# Altium footprint library 10.8x10mm_SMD_Inductor.PcbLib: 1 footprints
Each footprint in its own frame and in the unit in brackets; x right, y up, seen from the top. Pads: shape width x height; smd on the part's side, far side on the other; paste and mask are expansions set on the pad; w line width, h text height; cw(c..) or ccw(c..) is an arc to the next point about the centre after c.
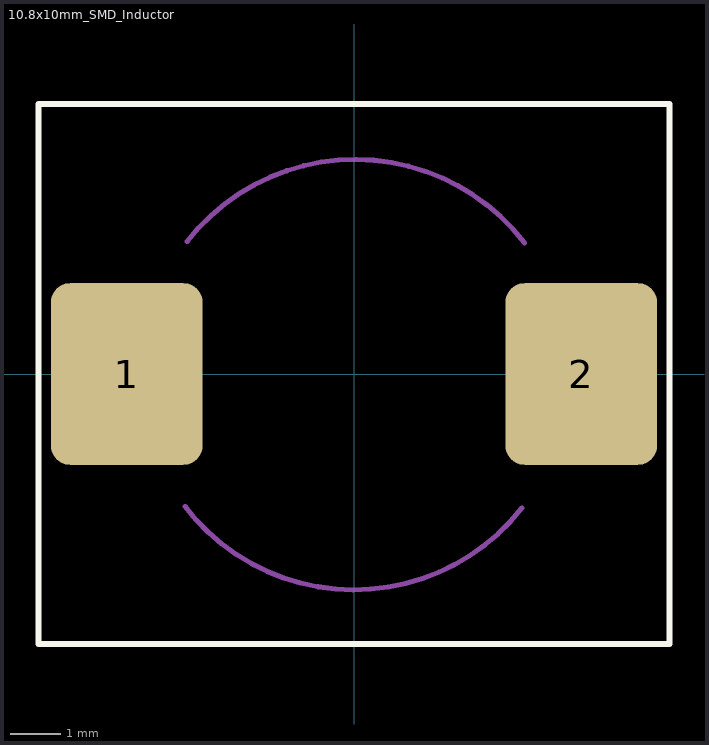
[diagram p0: the footprint, top view; thin cyan lines are the x and y axes]

## 10.8x10mm_SMD_Inductor [mm] "10.8x10mm_SMD_Inductor"
pads (2):
  rrect25% 3x3.6 smd paste+0 mask+0.102: 1(-4.5,0) 2(4.5,0)
Top Overlay:
  lines w0.12: -6.25,-5.35 -6.25,5.35 6.25,5.35 6.25,-5.35 -6.25,-5.35
Mechanical 1:
  lines w0.1: -3.35,-2.622 ccw(c0,-0.05) 3.327,-2.652 ; -3.302,2.627 cw(c0.025,0.025) 3.375,2.597 ; -6.25,-5.35 -6.25,5.35 6.25,5.35 6.25,-5.35 -6.25,-5.35
  text ".Designator" at 0.075,0.551 h2
Top Courtyard:
  text "+" at -1,-1.5 h3
3D body "SLO1040H470MTT.STEP": height 4, standoff -0.2, extent -5.625,-5.1 5.575,4.9